# EAGLE library part ARIA_G25 (library 000001)
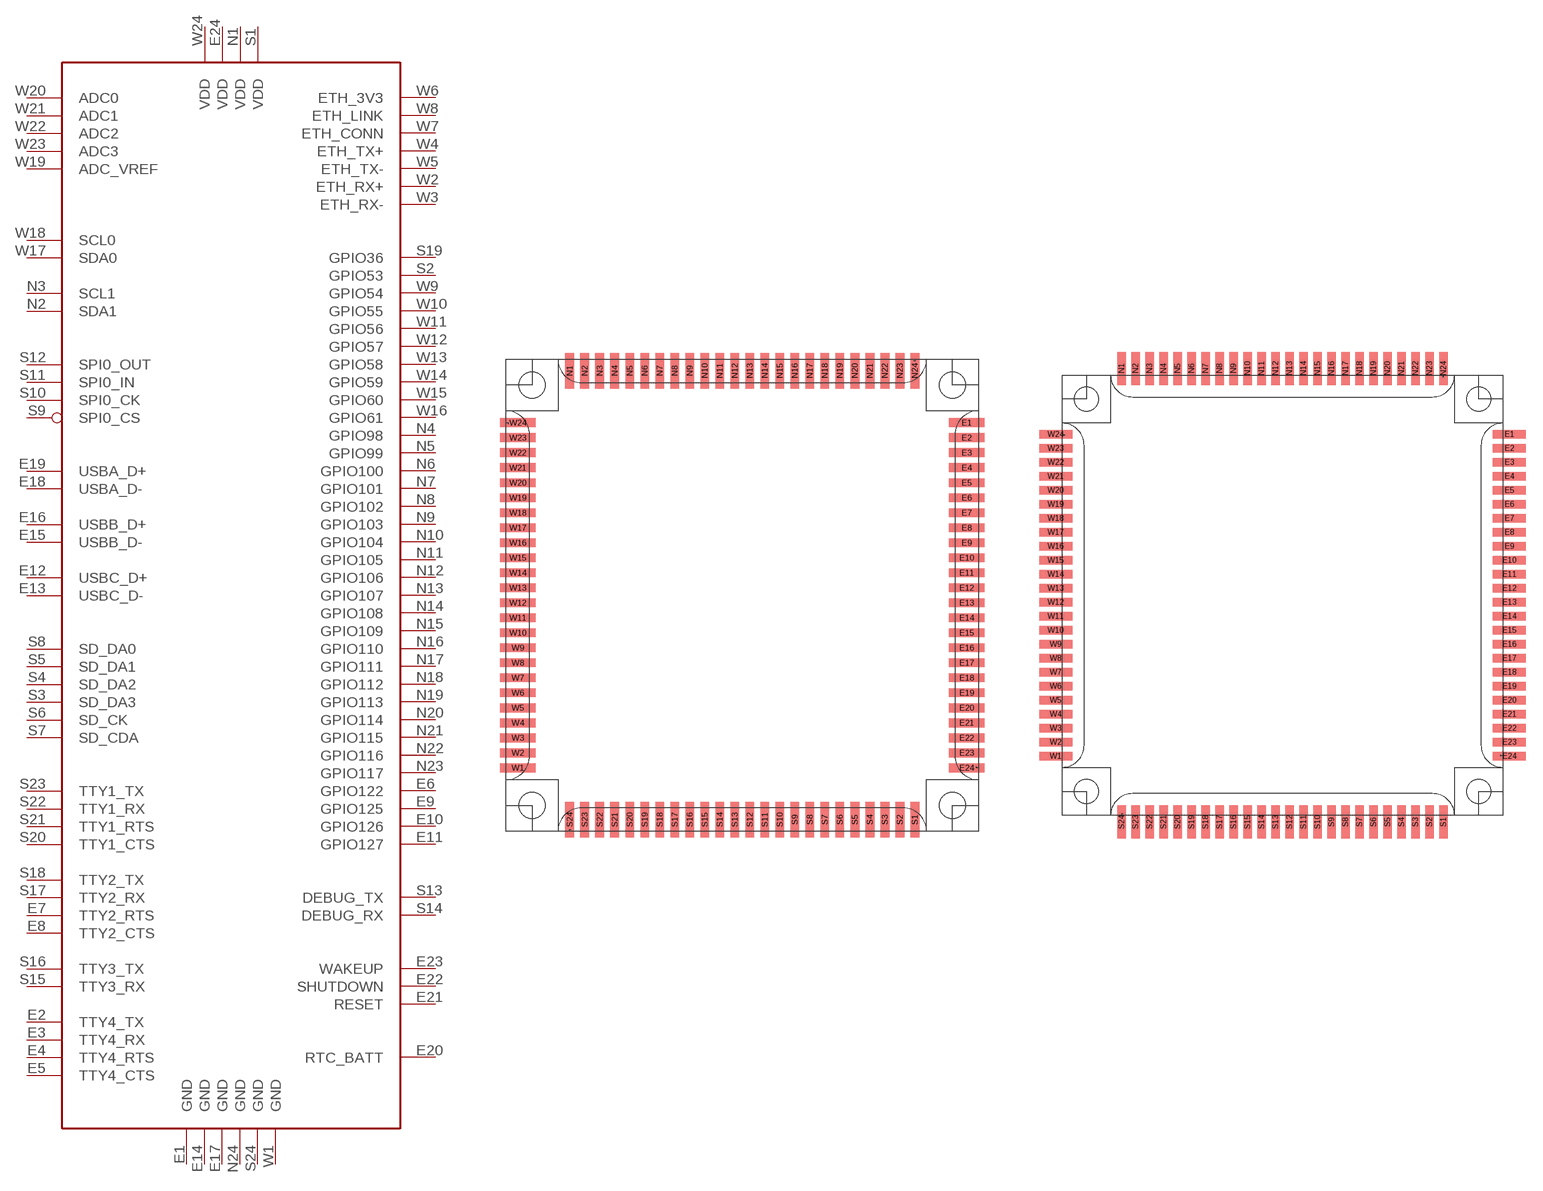
[diagram p120: symbol with the pads of ARIAG25; footprints ARIAG25, ARIAG25_B]

Designator prefix -

## ARIA_G25  [ARIAG25]
E1  GND  pwr
E2  TTY4_TX  out
E3  TTY4_RX  in
E4  TTY4_RTS
E5  TTY4_CTS
E6  GPIO122
E7  TTY2_RTS
E8  TTY2_CTS
E9  GPIO125
E10  GPIO126
E11  GPIO127
E12  USBC_D+
E13  USBC_D-
E14  GND  pwr
E15  USBB_D-
E16  USBB_D+
E17  GND  pwr
E18  USBA_D-
E19  USBA_D+
E20  RTC_BATT
E21  RESET
E22  SHUTDOWN
E23  WAKEUP
E24  VDD  pwr
N1  VDD  pwr
N2  SDA1
N3  SCL1  out
N4  GPIO98
N5  GPIO99
N6  GPIO100
N7  GPIO101
N8  GPIO102
N9  GPIO103
N10  GPIO104
N11  GPIO105
N12  GPIO106
N13  GPIO107
N14  GPIO108
N15  GPIO109
N16  GPIO110
N17  GPIO111
N18  GPIO112
N19  GPIO113
N20  GPIO114
N21  GPIO115
N22  GPIO116
N23  GPIO117
N24  GND  pwr
S1  VDD  pwr
S2  GPIO53
S3  SD_DA3
S4  SD_DA2
S5  SD_DA1
S6  SD_CK
S7  SD_CDA
S8  SD_DA0
S9  SPI0_CS  out
S10  SPI0_CK  out
S11  SPI0_IN  in
S12  SPI0_OUT  out
S13  DEBUG_TX  out
S14  DEBUG_RX  in
S15  TTY3_RX  in
S16  TTY3_TX  out
S17  TTY2_RX  in
S18  TTY2_TX  out
S19  GPIO36
S20  TTY1_CTS
S21  TTY1_RTS
S22  TTY1_RX  in
S23  TTY1_TX  out
S24  GND  pwr
W1  GND  pwr
W2  ETH_RX+  in
W3  ETH_RX-  in
W4  ETH_TX+  out
W5  ETH_TX-  out
W6  ETH_3V3  pwr
W7  ETH_CONN  out
W8  ETH_LINK  out
W9  GPIO54
W10  GPIO55
W11  GPIO56
W12  GPIO57
W13  GPIO58
W14  GPIO59
W15  GPIO60
W16  GPIO61
W17  SDA0
W18  SCL0  out
W19  ADC_VREF  in
W20  ADC0  in
W21  ADC1  in
W22  ADC2  in
W23  ADC3  in
W24  VDD  pwr

## ARIA_G25B  [ARIAG25_B]
Pads as for ARIAG25

## Footprint ARIAG25 (pad centres in mm)
smd 3 x 0.75: E1 19,14.605; E2 19,13.335; E3 19,12.065; E4 19,10.795; E5 19,9.525; E6 19,8.255; E7 19,6.985; E8 19,5.715; E9 19,4.445; E10 19,3.175; E11 19,1.905; E12 19,0.635; E13 19,-0.635; E14 19,-1.905; E15 19,-3.175; E16 19,-4.445; E17 19,-5.715; E18 19,-6.985; E19 19,-8.255; E20 19,-9.525; E21 19,-10.795; E22 19,-12.065; E23 19,-13.335; E24 19,-14.605; W1 -19,-14.605; W2 -19,-13.335; W3 -19,-12.065; W4 -19,-10.795; W5 -19,-9.525; W6 -19,-8.255; W7 -19,-6.985; W8 -19,-5.715; W9 -19,-4.445; W10 -19,-3.175; W11 -19,-1.905; W12 -19,-0.635; W13 -19,0.635; W14 -19,1.905; W15 -19,3.175; W16 -19,4.445; W17 -19,5.715; W18 -19,6.985; W19 -19,8.255; W20 -19,9.525; W21 -19,10.795; W22 -19,12.065; W23 -19,13.335; W24 -19,14.605
smd 0.75 x 3: N1 -14.605,19; N2 -13.335,19; N3 -12.065,19; N4 -10.795,19; N5 -9.525,19; N6 -8.255,19; N7 -6.985,19; N8 -5.715,19; N9 -4.445,19; N10 -3.175,19; N11 -1.905,19; N12 -0.635,19; N13 0.635,19; N14 1.905,19; N15 3.175,19; N16 4.445,19; N17 5.715,19; N18 6.985,19; N19 8.255,19; N20 9.525,19; N21 10.795,19; N22 12.065,19; N23 13.335,19; N24 14.605,19; S1 14.605,-19; S2 13.335,-19; S3 12.065,-19; S4 10.795,-19; S5 9.525,-19; S6 8.255,-19; S7 6.985,-19; S8 5.715,-19; S9 4.445,-19; S10 3.175,-19; S11 1.905,-19; S12 0.635,-19; S13 -0.635,-19; S14 -1.905,-19; S15 -3.175,-19; S16 -4.445,-19; S17 -5.715,-19; S18 -6.985,-19; S19 -8.255,-19; S20 -9.525,-19; S21 -10.795,-19; S22 -12.065,-19; S23 -13.335,-19; S24 -14.605,-19
hole 2.2 at -17.8,17.8
hole 2.2 at -17.8,-17.8
hole 2.2 at 17.8,-17.8
hole 2.2 at 17.8,17.8

## Footprint ARIAG25_B (pad centres in mm)
smd 3 x 0.75: E1 20.587,14.605; E2 20.587,13.335; E3 20.587,12.065; E4 20.587,10.795; E5 20.587,9.525; E6 20.587,8.255; E7 20.587,6.985; E8 20.587,5.715; E9 20.587,4.445; E10 20.587,3.175; E11 20.587,1.905; E12 20.587,0.635; E13 20.587,-0.635; E14 20.587,-1.905; E15 20.587,-3.175; E16 20.587,-4.445; E17 20.587,-5.715; E18 20.587,-6.985; E19 20.587,-8.255; E20 20.587,-9.525; E21 20.587,-10.795; E22 20.587,-12.065; E23 20.587,-13.335; E24 20.587,-14.605; W1 -20.587,-14.605; W2 -20.587,-13.335; W3 -20.587,-12.065; W4 -20.587,-10.795; W5 -20.587,-9.525; W6 -20.587,-8.255; W7 -20.587,-6.985; W8 -20.587,-5.715; W9 -20.587,-4.445; W10 -20.587,-3.175; W11 -20.587,-1.905; W12 -20.587,-0.635; W13 -20.587,0.635; W14 -20.587,1.905; W15 -20.587,3.175; W16 -20.587,4.445; W17 -20.587,5.715; W18 -20.587,6.985; W19 -20.587,8.255; W20 -20.587,9.525; W21 -20.587,10.795; W22 -20.587,12.065; W23 -20.587,13.335; W24 -20.587,14.605
smd 0.75 x 3: N1 -14.605,20.587; N2 -13.335,20.587; N3 -12.065,20.587; N4 -10.795,20.587; N5 -9.525,20.587; N6 -8.255,20.587; N7 -6.985,20.587; N8 -5.715,20.587; N9 -4.445,20.587; N10 -3.175,20.587; N11 -1.905,20.587; N12 -0.635,20.587; N13 0.635,20.587; N14 1.905,20.587; N15 3.175,20.587; N16 4.445,20.587; N17 5.715,20.587; N18 6.985,20.587; N19 8.255,20.587; N20 9.525,20.587; N21 10.795,20.587; N22 12.065,20.587; N23 13.335,20.587; N24 14.605,20.587; S1 14.605,-20.587; S2 13.335,-20.587; S3 12.065,-20.587; S4 10.795,-20.587; S5 9.525,-20.587; S6 8.255,-20.587; S7 6.985,-20.587; S8 5.715,-20.587; S9 4.445,-20.587; S10 3.175,-20.587; S11 1.905,-20.587; S12 0.635,-20.587; S13 -0.635,-20.587; S14 -1.905,-20.587; S15 -3.175,-20.587; S16 -4.445,-20.587; S17 -5.715,-20.587; S18 -6.985,-20.587; S19 -8.255,-20.587; S20 -9.525,-20.587; S21 -10.795,-20.587; S22 -12.065,-20.587; S23 -13.335,-20.587; S24 -14.605,-20.587
hole 2.2 at -17.8,17.8
hole 2.2 at -17.8,-17.8
hole 2.2 at 17.8,-17.8
hole 2.2 at 17.8,17.8